# EAGLE library part SI8642 (library silabs-isolators)
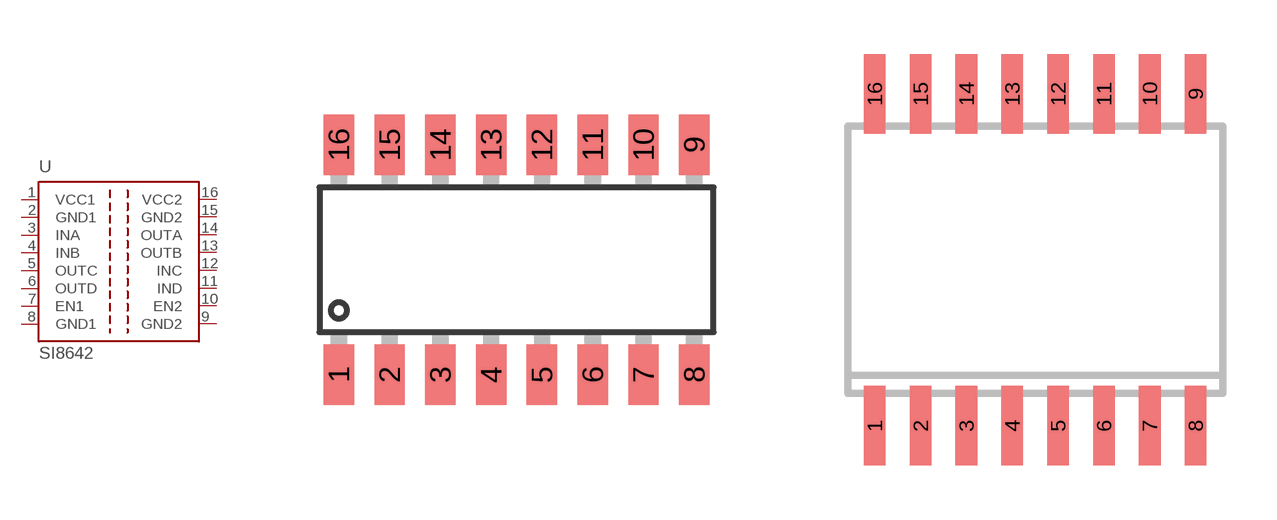
[diagram p2: symbol with the pads of SO16; footprints SO16, SO16W]

Designator prefix -

## SI8642AA (ISO: 1kV; SPEED: 1MSps), SI8642BA (ISO: 1kV; SPEED: 150MSps), SI8642EA (ISO: 1kV; SPEED: 150MSps)  [SO16]
1  VCC1  pwr
2  GND1  pwr
3  INA  in
4  INB  in
5  OUTC  out
6  OUTD  out
7  EN1  in
8  GND1  pwr
9  GND2  pwr
10  EN2  in
11  IND  in
12  INC  in
13  OUTB  out
14  OUTA  out
15  GND2  pwr
16  VCC2  pwr

## SI8642AB (ISO: 2.5kV; SPEED: 1MSps), SI8642BB (ISO: 2.5kV; SPEED: 150MSps), SI8642EB (ISO: 2.5kV; SPEED: 150MSps)  [SO16]
Pads as for SO16

## SI8642AC (ISO: 3.75kV; SPEED: 1MSps), SI8642BC (ISO: 3.75kV; SPEED: 150MSps), SI8642EC (ISO: 3.75kV; SPEED: 150MSps)  [SO16]
Pads as for SO16

## SI8642AD (ISO: 5kV; SPEED: 1MSps), SI8642BD (ISO: 5kV; SPEED: 150MSps), SI8642ED (ISO: 5kV; SPEED: 150MSps)  [SO16W]
Pads as for SO16

## SI8642AT (ISO: 5kV (10kVp); SPEED: 1MSps), SI8642BT (ISO: 5kV (10kVp); SPEED: 150MSps), SI8642ET (ISO: 5kV (10kVp); SPEED: 150MSps)  [SO16W]
Pads as for SO16

## Footprint SO16 (pad centres in mm)
PLASTIC SMALL-OUTLINES PACKAGE D (R-PDSO-G16) Source: http://focus.ti.com/lit/ds/symlink/ina2126.pdf
smd 0.762 x 1.524: 1 -4.445,-2.875; 2 -3.175,-2.875; 3 -1.905,-2.875; 4 -0.635,-2.875; 5 0.635,-2.875; 6 1.905,-2.875; 7 3.175,-2.875; 8 4.445,-2.875; 9 4.445,2.875; 10 3.175,2.875; 11 1.905,2.875; 12 0.635,2.875; 13 -0.635,2.875; 14 -1.905,2.875; 15 -3.175,2.875; 16 -4.445,2.875

## Footprint SO16W (pad centres in mm)
SMALL OUTLINE INTEGRATED CIRCUIT wide body 7.5 mm/JEDEC MS-013AA
smd 0.6 x 2.2: 1 -4.445,-4.6; 2 -3.175,-4.6; 3 -1.905,-4.6; 4 -0.635,-4.6; 5 0.635,-4.6; 6 1.905,-4.6; 7 3.175,-4.6; 8 4.445,-4.6; 9 4.445,4.6; 10 3.175,4.6; 11 1.905,4.6; 12 0.635,4.6; 13 -0.635,4.6; 14 -1.905,4.6; 15 -3.175,4.6; 16 -4.445,4.6